# Altium schematic symbol library C-C0603C222K3RACTU.Schlib: 1 symbol
Pins are listed as number, name and electrical type; pins without a type are passive.

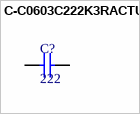
[diagram p0: symbol C-C0603C222K3RACTU]

## C-C0603C222K3RACTU
designator C?, comment 222
Multilayer Ceramic Capacitors MLCC - SMD/SMT 25volts 2200pF X7R 10%
pins: 1, 2